# EAGLE library part CS8427_SWMODE (library SKAARHOJ)
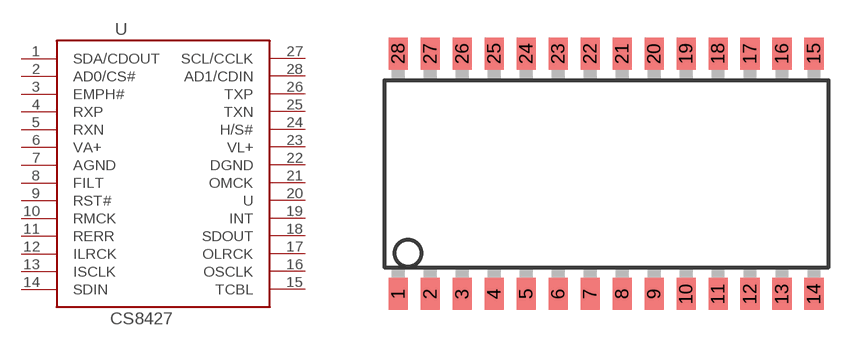
[diagram p57: symbol with the pads of SO28W; footprint SO28W]

Designator prefix -

## CS8427_SWMODE  [SO28W]
1  SDA/CDOUT
2  AD0/CS#  in
3  EMPH#  out
4  RXP  in
5  RXN  in
6  VA+  pwr
7  AGND  pwr
8  FILT  out
9  RST#  in
10  RMCK  out
11  RERR  out
12  ILRCK
13  ISCLK
14  SDIN  in
15  TCBL
16  OSCLK
17  OLRCK
18  SDOUT  out
19  INT  out
20  U
21  OMCK  in
22  DGND  pwr
23  VL+  pwr
24  H/S#  in
25  TXN  out
26  TXP  out
27  SCL/CCLK  in
28  AD1/CDIN  in

## Footprint SO28W (pad centres in mm)
28-Lead Plastic Small Outline (SO) Wide, 300 mil Body (SOIC) Source: http://ww1.microchip.com/downloads/en/devicedoc/39632c.pdf
smd 0.762 x 1.27: 1 -7.62,-4.78; 2 -6.35,-4.78; 3 -5.08,-4.78; 4 -3.81,-4.78; 5 -2.54,-4.78; 6 -1.27,-4.78; 7 0,-4.78; 8 1.27,-4.78; 9 2.54,-4.78; 10 3.81,-4.78; 11 5.08,-4.78; 12 6.35,-4.78; 13 7.62,-4.78; 14 8.89,-4.78; 15 8.89,4.78; 16 7.62,4.78; 17 6.35,4.78; 18 5.08,4.78; 19 3.81,4.78; 20 2.54,4.78; 21 1.27,4.78; 22 0,4.78; 23 -1.27,4.78; 24 -2.54,4.78; 25 -3.81,4.78; 26 -5.08,4.78; 27 -6.35,4.78; 28 -7.62,4.78